# Altium footprint library AM6T-1205SZ.PcbLib: 1 footprints
Each footprint in its own frame and in the unit in brackets; x right, y up, seen from the top. Pads: shape width x height; smd on the part's side, far side on the other; paste and mask are expansions set on the pad; w line width, h text height; cw(c..) or ccw(c..) is an arc to the next point about the centre after c.
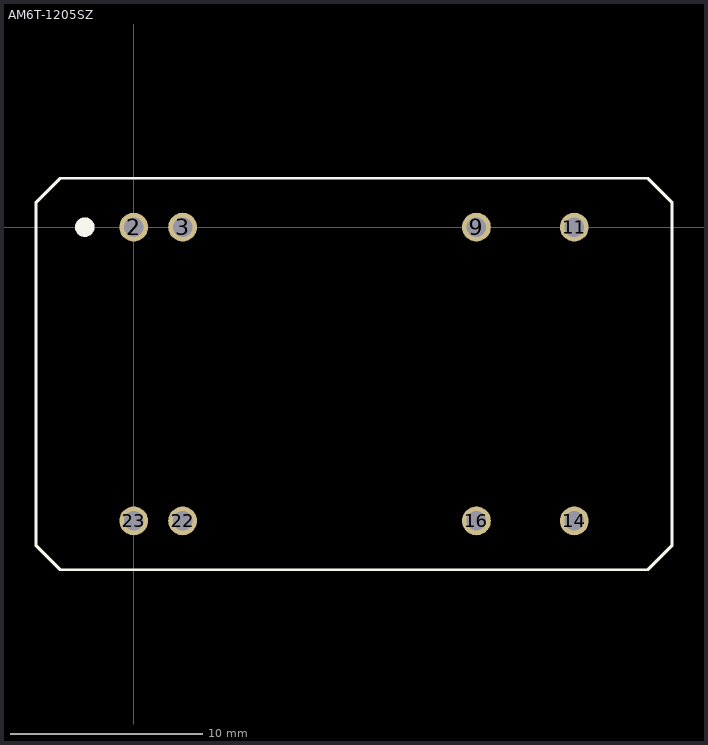
[diagram p0: the footprint, top view; thin cyan lines are the x and y axes]

## AM6T-1205SZ [mm]
pads (8):
  round 1.5 hole 1: 2(0,0) 3(2.54,0) 9(17.78,0) 11(22.86,0) 14(22.86,-15.24) 16(17.78,-15.24) 22(2.54,-15.24) 23(0,-15.24)
Top Overlay:
  circle w0.508: c-2.54,0 r0.254
  lines w0.15: -5.08,-16.51 -5.08,1.27 -3.81,2.54 26.67,2.54 27.94,1.27 27.94,-15.24 27.94,-16.51 26.67,-17.78 25.4,-17.78 -3.81,-17.78 -5.08,-16.51
3D body: height 10.16, standoff 0, extent -5.08,-17.78 27.94,2.54